# Altium footprint library MicroSMD_50P_V.PcbLib: 85 footprints (part 7 of 7)
Each footprint in its own frame and in the unit in brackets; x right, y up, seen from the top. Pads: shape width x height; smd on the part's side, far side on the other; paste and mask are expansions set on the pad; w line width, h text height; cw(c..) or ccw(c..) is an arc to the next point about the centre after c.
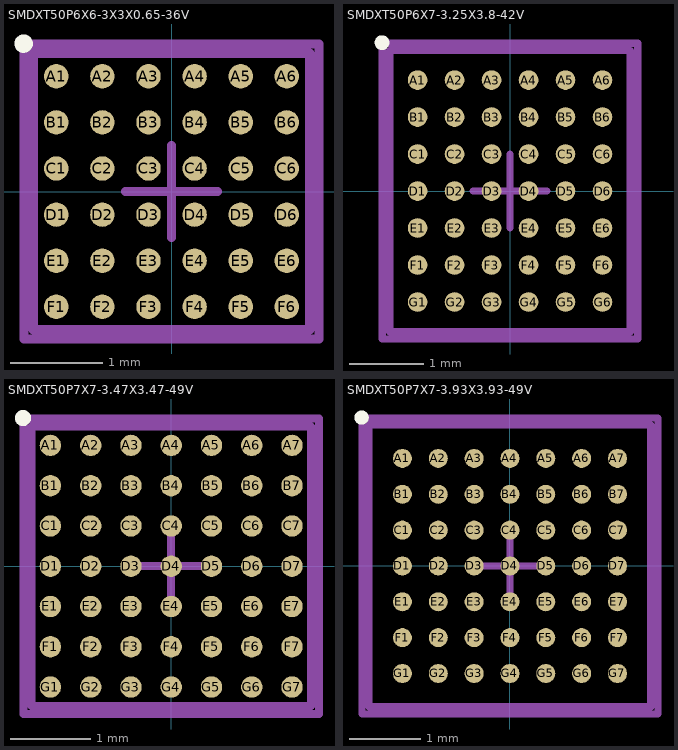
[diagram p6: the footprints below, top view; thin cyan lines are the x and y axes]

## SMDXT50P6X6-3X3X0.65-36V [mm] "Micro SMD, 36-Leads, Body 3x3mm, Pitch 0.5mm, NSC Recommended"
height 0.73
pads (36):
  round 0.265 smd paste-0.132 mask+0.05: A1(-1.25,1.25) A2(-0.75,1.25) A3(-0.25,1.25) A4(0.25,1.25) A5(0.75,1.25) A6(1.25,1.25) B1(-1.25,0.75) B2(-0.75,0.75) B3(-0.25,0.75) B4(0.25,0.75) B5(0.75,0.75) B6(1.25,0.75) C1(-1.25,0.25) C2(-0.75,0.25) C3(-0.25,0.25) C4(0.25,0.25) C5(0.75,0.25) C6(1.25,0.25) D1(-1.25,-0.25) D2(-0.75,-0.25) D3(-0.25,-0.25) D4(0.25,-0.25) D5(0.75,-0.25) D6(1.25,-0.25) E1(-1.25,-0.75) E2(-0.75,-0.75) E3(-0.25,-0.75) E4(0.25,-0.75) E5(0.75,-0.75) E6(1.25,-0.75) F1(-1.25,-1.25) F2(-0.75,-1.25) F3(-0.25,-1.25) F4(0.25,-1.25) F5(0.75,-1.25) F6(1.25,-1.25)
Top Overlay:
  circle w0.1: c-1.605,1.605 r0.05
Top Paste:
  drawing of 324 lines, arcs and shapes, not listed
Mechanical 13:
  lines w0.1: -1.5,-1.5 -1.5,1.5 1.5,1.5 1.5,-1.5 -1.5,-1.5
Mechanical 15:
  lines w0.1: -0.5,0 0.5,0 ; 0,-0.5 0,0.5 ; -1.6,-1.6 -1.6,1.6 1.6,1.6 1.6,-1.6 -1.6,-1.6
3D body: height 0.73, standoff 0, extent -1.5,-1.5 1.5,1.5

## SMDXT50P6X7-3.25X3.8-42V [mm] "Micro SMD, 42-Leads, Body 3.8x3.25mm, Pitch 0.5mm, NSC Recommended"
height 0.73
pads (42):
  round 0.265 smd paste-0.132 mask+0.05: A1(-1.25,1.5) A2(-0.75,1.5) A3(-0.25,1.5) A4(0.25,1.5) A5(0.75,1.5) A6(1.25,1.5) B1(-1.25,1) B2(-0.75,1) B3(-0.25,1) B4(0.25,1) B5(0.75,1) B6(1.25,1) C1(-1.25,0.5) C2(-0.75,0.5) C3(-0.25,0.5) C4(0.25,0.5) C5(0.75,0.5) C6(1.25,0.5) D1(-1.25,0) D2(-0.75,0) D3(-0.25,0) D4(0.25,0) D5(0.75,0) D6(1.25,0) E1(-1.25,-0.5) E2(-0.75,-0.5) E3(-0.25,-0.5) E4(0.25,-0.5) E5(0.75,-0.5) E6(1.25,-0.5) F1(-1.25,-1) F2(-0.75,-1) F3(-0.25,-1) F4(0.25,-1) F5(0.75,-1) F6(1.25,-1) G1(-1.25,-1.5) G2(-0.75,-1.5) G3(-0.25,-1.5) G4(0.25,-1.5) G5(0.75,-1.5) G6(1.25,-1.5)
Top Overlay:
  circle w0.1: c-1.73,2.005 r0.05
Top Paste:
  drawing of 378 lines, arcs and shapes, not listed
Mechanical 13:
  lines w0.1: -1.625,-1.9 1.625,-1.9 1.625,1.9 -1.625,1.9 -1.625,-1.9
Mechanical 15:
  lines w0.1: -0.5,0 0.5,0 ; 0,-0.5 0,0.5 ; -1.725,-2 1.725,-2 1.725,2 -1.725,2 -1.725,-2
3D body: height 0.73, standoff 0, extent -1.625,-1.9 1.625,1.9

## SMDXT50P7X7-3.47X3.47-49V [mm] "Micro SMD, 49-Leads, Body 3.47x3.47mm, Pitch 0.5mm, NSC Recommended"
height 0.73
pads (49):
  round 0.265 smd paste-0.132 mask+0.05: A1(-1.5,1.5) A2(-1,1.5) A3(-0.5,1.5) A4(0,1.5) A5(0.5,1.5) A6(1,1.5) A7(1.5,1.5) B1(-1.5,1) B2(-1,1) B3(-0.5,1) B4(0,1) B5(0.5,1) B6(1,1) B7(1.5,1) C1(-1.5,0.5) C2(-1,0.5) C3(-0.5,0.5) C4(0,0.5) C5(0.5,0.5) C6(1,0.5) C7(1.5,0.5) D1(-1.5,0) D2(-1,0) D3(-0.5,0) D4(0,0) D5(0.5,0) D6(1,0) D7(1.5,0) E1(-1.5,-0.5) E2(-1,-0.5) E3(-0.5,-0.5) E4(0,-0.5) E5(0.5,-0.5) E6(1,-0.5) E7(1.5,-0.5) F1(-1.5,-1) F2(-1,-1) F3(-0.5,-1) F4(0,-1) F5(0.5,-1) F6(1,-1) F7(1.5,-1) G1(-1.5,-1.5) G2(-1,-1.5) G3(-0.5,-1.5) G4(0,-1.5) G5(0.5,-1.5) G6(1,-1.5) G7(1.5,-1.5)
Top Overlay:
  circle w0.1: c-1.84,1.84 r0.05
Top Paste:
  drawing of 441 lines, arcs and shapes, not listed
Mechanical 13:
  lines w0.1: -1.735,-1.735 -1.735,1.735 1.735,1.735 1.735,-1.735 -1.735,-1.735
Mechanical 15:
  lines w0.1: -0.5,0 0.5,0 ; 0,-0.5 0,0.5 ; -1.835,-1.835 -1.835,1.835 1.835,1.835 1.835,-1.835 -1.835,-1.835
3D body: height 0.73, standoff 0, extent -1.735,-1.735 1.735,1.735

## SMDXT50P7X7-3.93X3.93-49V [mm] "Micro SMD, 49-Leads, Body 3.93x3.93mm, Pitch 0.5mm, NSC Recommended"
height 0.73
pads (49):
  round 0.265 smd paste-0.132 mask+0.05: A1(-1.5,1.5) A2(-1,1.5) A3(-0.5,1.5) A4(0,1.5) A5(0.5,1.5) A6(1,1.5) A7(1.5,1.5) B1(-1.5,1) B2(-1,1) B3(-0.5,1) B4(0,1) B5(0.5,1) B6(1,1) B7(1.5,1) C1(-1.5,0.5) C2(-1,0.5) C3(-0.5,0.5) C4(0,0.5) C5(0.5,0.5) C6(1,0.5) C7(1.5,0.5) D1(-1.5,0) D2(-1,0) D3(-0.5,0) D4(0,0) D5(0.5,0) D6(1,0) D7(1.5,0) E1(-1.5,-0.5) E2(-1,-0.5) E3(-0.5,-0.5) E4(0,-0.5) E5(0.5,-0.5) E6(1,-0.5) E7(1.5,-0.5) F1(-1.5,-1) F2(-1,-1) F3(-0.5,-1) F4(0,-1) F5(0.5,-1) F6(1,-1) F7(1.5,-1) G1(-1.5,-1.5) G2(-1,-1.5) G3(-0.5,-1.5) G4(0,-1.5) G5(0.5,-1.5) G6(1,-1.5) G7(1.5,-1.5)
Top Overlay:
  circle w0.1: c-2.07,2.07 r0.05
Top Paste:
  drawing of 441 lines, arcs and shapes, not listed
Mechanical 13:
  lines w0.1: -1.965,-1.965 -1.965,1.965 1.965,1.965 1.965,-1.965 -1.965,-1.965
Mechanical 15:
  lines w0.1: -0.5,0 0.5,0 ; 0,-0.5 0,0.5 ; -2.065,-2.065 -2.065,2.065 2.065,2.065 2.065,-2.065 -2.065,-2.065
3D body: height 0.73, standoff 0, extent -1.965,-1.965 1.965,1.965